# Altium schematic symbol library IC_MOTOR_CTRL.SchLib: 8 symbols
Pins are listed as number, name and electrical type; pins without a type are passive.

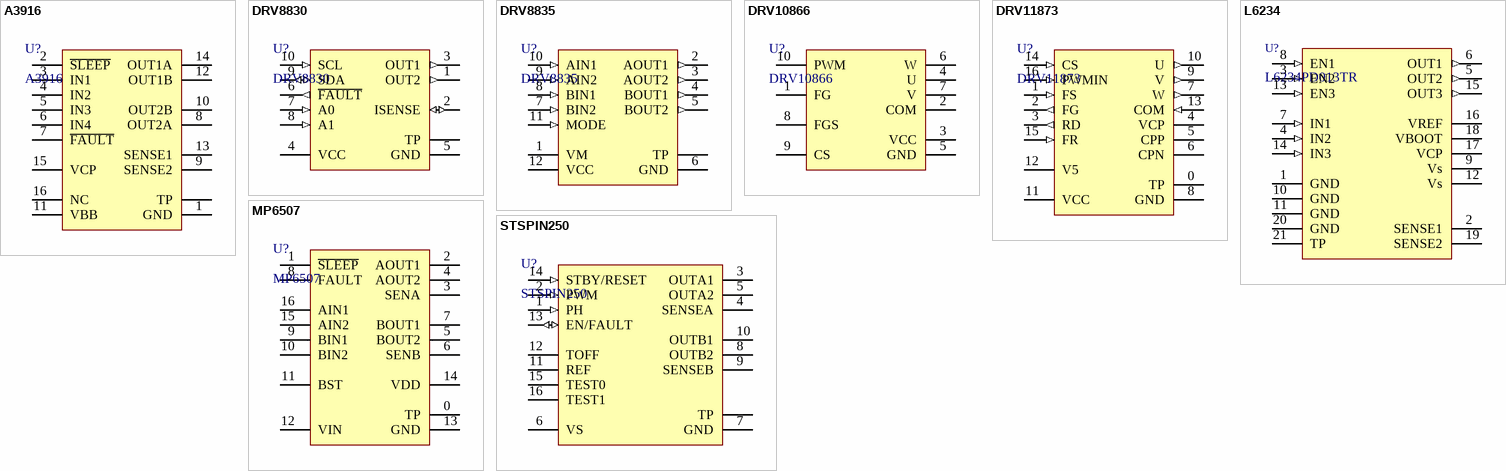
[diagram p0: symbols A3916 to STSPIN250]

## A3916
designator U?
Dual DMOS Full-Bridge Motor Driver; Current[A]: 1; VoltageSupplyMax[V]: 15; VoltageSupplyMin[V]: 2.7; Interface: Parallel; Datasheet: http://www.allegromicro.com/~/media/Files/Datasheets/A3916-Datasheet.ashx; Supplier: https://www.digikey.com/product-detail/en/allegro-microsystems-llc/A3916GESTR-T/620-1833-1-ND/6348453; Price(1): 1.12; Price(100): 0.7818; Device: A3916
footprint QFN-16-0.5-3x3_TP
pins: 0 TP, 1 GND, 2 ~{SLEEP}, 3 IN1, 4 IN2, 5 IN3, 6 IN4, 7 ~{FAULT}, 8 OUT2A, 9 SENSE2, 10 OUT2B, 11 VBB, 12 OUT1B, 13 SENSE1, 14 OUT1A, 15 VCP, 16 NC

## DRV8830
designator U?
Low-Voltage Motor Driver With Serial Interface; Current[A]: 1; VoltageSupplyMin[V]: 2.75; VoltageSupplyMax[V]: 6.8; Interface: I2C; Datasheet: http://www.ti.com/lit/ds/symlink/drv8830.pdf; Supplier: https://www.digikey.com/product-detail/en/texas-instruments/DRV8830DRCR/296-30544-1-ND/3458117; Price(1): 2.32; Price(100): 1.67; Device: DRV8830
footprint DFN-10-0.5_3x3_TP (SON, 0.50mm Pitch, 10-pin, 3.00mm W  X 3.00mm L X 0.80mm Height, (w/thermal tab 1.75 X 2.48 mm), IPC Medium Density)
pins: 0 TP, 1 OUT2 (out), 2 ISENSE (io), 3 OUT1 (out), 4 VCC (power), 5 GND (power), 6 ~{FAULT} (out), 7 A0 (in), 8 A1 (in), 9 SDA (io), 10 SCL (in)

## DRV8835
designator U?
Dual Low-Voltage H-Bridge driver; Current[A]: 1.5; Interface: Parallel; VoltageSupplyMax[V]: 7; VoltageSupplyMin[V]: 2; Datasheet: http://www.ti.com/lit/ds/symlink/drv8835.pdf; Supplier: https://www.digikey.com/product-detail/en/texas-instruments/DRV8835DSSR/296-30391-1-ND/3188673; Price(1): 1.91; Price(100): 1.382; Device: DRV8835
footprint DFN-12-0.5-3x2 (QFN, 16-Leads, Body 2,00x3,00mm, Pitch 0,50mm, Thermal Pad 0,90x2,00mm, IPC Medium Density)
pins: 0 TP (power), 1 VM (power), 2 AOUT1 (out), 3 AOUT2 (out), 4 BOUT1 (out), 5 BOUT2 (out), 6 GND (power), 7 BIN2 (in), 8 BIN1 (in), 9 AIN2 (in), 10 AIN1 (in), 11 MODE (in), 12 VCC (power)

## DRV10866
designator U?
5V, 3-Phase, Sensorless BLDC Motor Driver; VoltageSupplyMax[V]: 5.5; VoltageSupplyMin[V]: 1.65; Current[A]: 0.68; Interface: PWM; Datasheet: http://www.ti.com/lit/ds/symlink/drv10866.pdf; Supplier: http://ru.mouser.com/search/ProductDetail.aspx?qs=rlDBmY3x7k44jWu8WULIdw%3d%3d&utm_source=findchips&utm_medium=aggregator&utm_campaign=595-DRV10866DSCR&utm_term=DRV10866; Price(1): 1.93; Price(100): 1.36; Device: DRV10866
footprint SON-10-0.5_3x3 (SON, 0.50mm Pitch, 10-pin, 3.00mm W  X 3.00mm L X 0.80mm Height, (w/thermal tab 1.75 X 2.48 mm), IPC Medium Density)
pins: 1 FG, 2 COM, 3 VCC, 4 U, 5 GND, 6 W, 7 V, 8 FGS, 9 CS, 10 PWM, 11 GND

## DRV11873
designator U?
12V, 3-Phase, Sensorless BLDC Motor Driver; VoltageSupplyMax[V]: 16; VoltageSupplyMin[V]: 5; Current[A]: 0.68; Interface: PWM; Datasheet: http://www.ti.com/lit/ds/symlink/drv11873.pdf; Supplier: https://www.digikey.com/product-detail/en/texas-instruments/DRV11873PWPR/296-35715-1-ND/3918515; Price(1): 2.16; Price(100): 1.5599; Device: DRV11873
footprint HTSSOP-16 (TSOP, 16-Leads, Body 5,00x4,40mm, Pitch 0,65mm, Thermal Pad 2,41x2,46mm, IPC Medium Density)
pins: 0 TP (power), 1 FS (in), 2 FG (out), 3 RD (out), 4 VCP, 5 CPP, 6 CPN, 7 W (out), 8 GND (power), 9 V (out), 10 U (out), 11 VCC (power), 12 V5, 13 COM (in), 14 CS (in), 15 FR (in), 16 PWMIN (in)

## L6234
designator U?, comment L6234PD013TR
Three-phase motor driver; =BOMString: L6234PD013TR; Name: L6234PD013TR
footprint PowerSO-20 (SOP, 20-Leads, Body 15,90x11,00mm, Pitch 1,27mm, Thermal Pad 9,80x6,20mm, IPC Low Density)
pins: 1 GND, 2 SENSE1 (power), 3 EN2 (in), 4 IN2 (in), 5 OUT2 (out), 6 OUT1 (out), 7 IN1 (in), 8 EN1 (in), 9 Vs (power), 10 GND, 11 GND, 12 Vs (power), 13 EN3 (in), 14 IN3 (in), 15 OUT3 (out), 16 VREF (power), 17 VCP (power), 18 VBOOT (power), 19 SENSE2 (power), 20 GND, 21 TP

## MP6507
designator U?
12V, 3-Phase, Sensorless BLDC Motor Driver; VoltageSupplyMax[V]: 15; VoltageSupplyMin[V]: 2.7; Current[A]: 0.7; Interface: Parallel; Datasheet: http://www.monolithicpower.com/DesktopModules/DocumentManage/API/Document/getDocument?id=3494; Supplier: https://www.digikey.com/product-detail/en/monolithic-power-systems-inc/MP6507GF/1589-1417-ND/5299174; Price(1): 1.83; Price(100): 1.3275; Device: MP6507
footprint HTSSOP-16 (TSOP, 16-Leads, Body 5,00x4,40mm, Pitch 0,65mm, Thermal Pad 2,41x2,46mm, IPC Medium Density)
pins: 0 TP, 1 ~{SLEEP}, 2 AOUT1, 3 SENA, 4 AOUT2, 5 BOUT2, 6 SENB, 7 BOUT1, 8 FAULT, 9 BIN1, 10 BIN2, 11 BST, 12 VIN, 13 GND, 14 VDD, 15 AIN2, 16 AIN1

## STSPIN250
designator U?
12V, 3-Phase, Sensorless BLDC Motor Driver; VoltageSupplyMax[V]: 10; VoltageSupplyMin[V]: 1.8; Interface: PWM; Datasheet: http://www.st.com/content/ccc/resource/technical/document/datasheet/group3/c0/0a/9b/75/f1/48/4f/2b/DM00335775/files/DM00335775.pdf/jcr:content/translations/en.DM00335775.pdf; Supplier: https://www.digikey.com/product-detail/en/stmicroelectronics/STSPIN250/497-17035-1-ND/6579085; Price(1): 2.05; Price(100): 1.4809; Device: STSPIN250; Current[A]: 1.8
footprint QFN-16-0.5-3x3_TP
pins: 0 TP, 1 PH (in), 2 PWM (in), 3 OUTA1, 4 SENSEA, 5 OUTA2, 6 VS, 7 GND, 8 OUTB2, 9 SENSEB, 10 OUTB1, 11 REF, 12 TOFF, 13 EN/FAULT (io), 14 STBY/RESET (in), 15 TEST0, 16 TEST1